# EAGLE library part OPTOMOS_DUAL_ACDC (library 1)
EX. PAA150STR <http://www.clare.com/home/pdfs.nsf/0/C08E5BD1984AF9E385256A2C00671650/$file/Paa150.pdf>
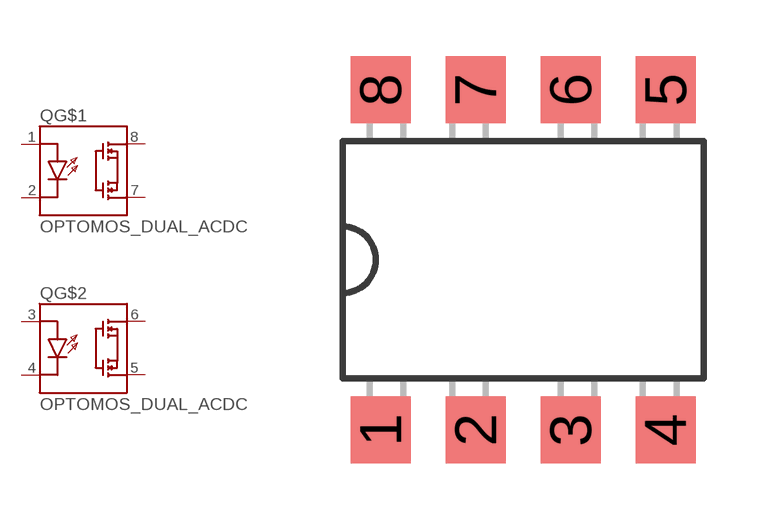
[diagram p34: symbol with the pads of SMD-8; footprint SMD-8]

Designator prefix Q; gates G$1=OPTOMOS_ACDC G$2=OPTOMOS_ACDC

## OPTOMOS_DUAL_ACDC  [SMD-8]
1  G$1:A  pas
2  G$1:C  pas
3  G$2:A  pas
4  G$2:C  pas
5  G$2:MT1  pas
6  G$2:MT2  pas
7  G$1:MT1  pas
8  G$1:MT2  pas

## Footprint SMD-8 (pad centres in mm)
SMD-8
smd 1.6 x 1.8: 1 -3.81,-4.55; 2 -1.27,-4.55; 3 1.27,-4.55; 4 3.81,-4.55; 5 3.81,4.55; 6 1.27,4.55; 7 -1.27,4.55; 8 -3.81,4.55